# Altium schematic symbol library MCUs.SchLib: 41 symbols
Pins are listed as number, name and electrical type; pins without a type are passive.

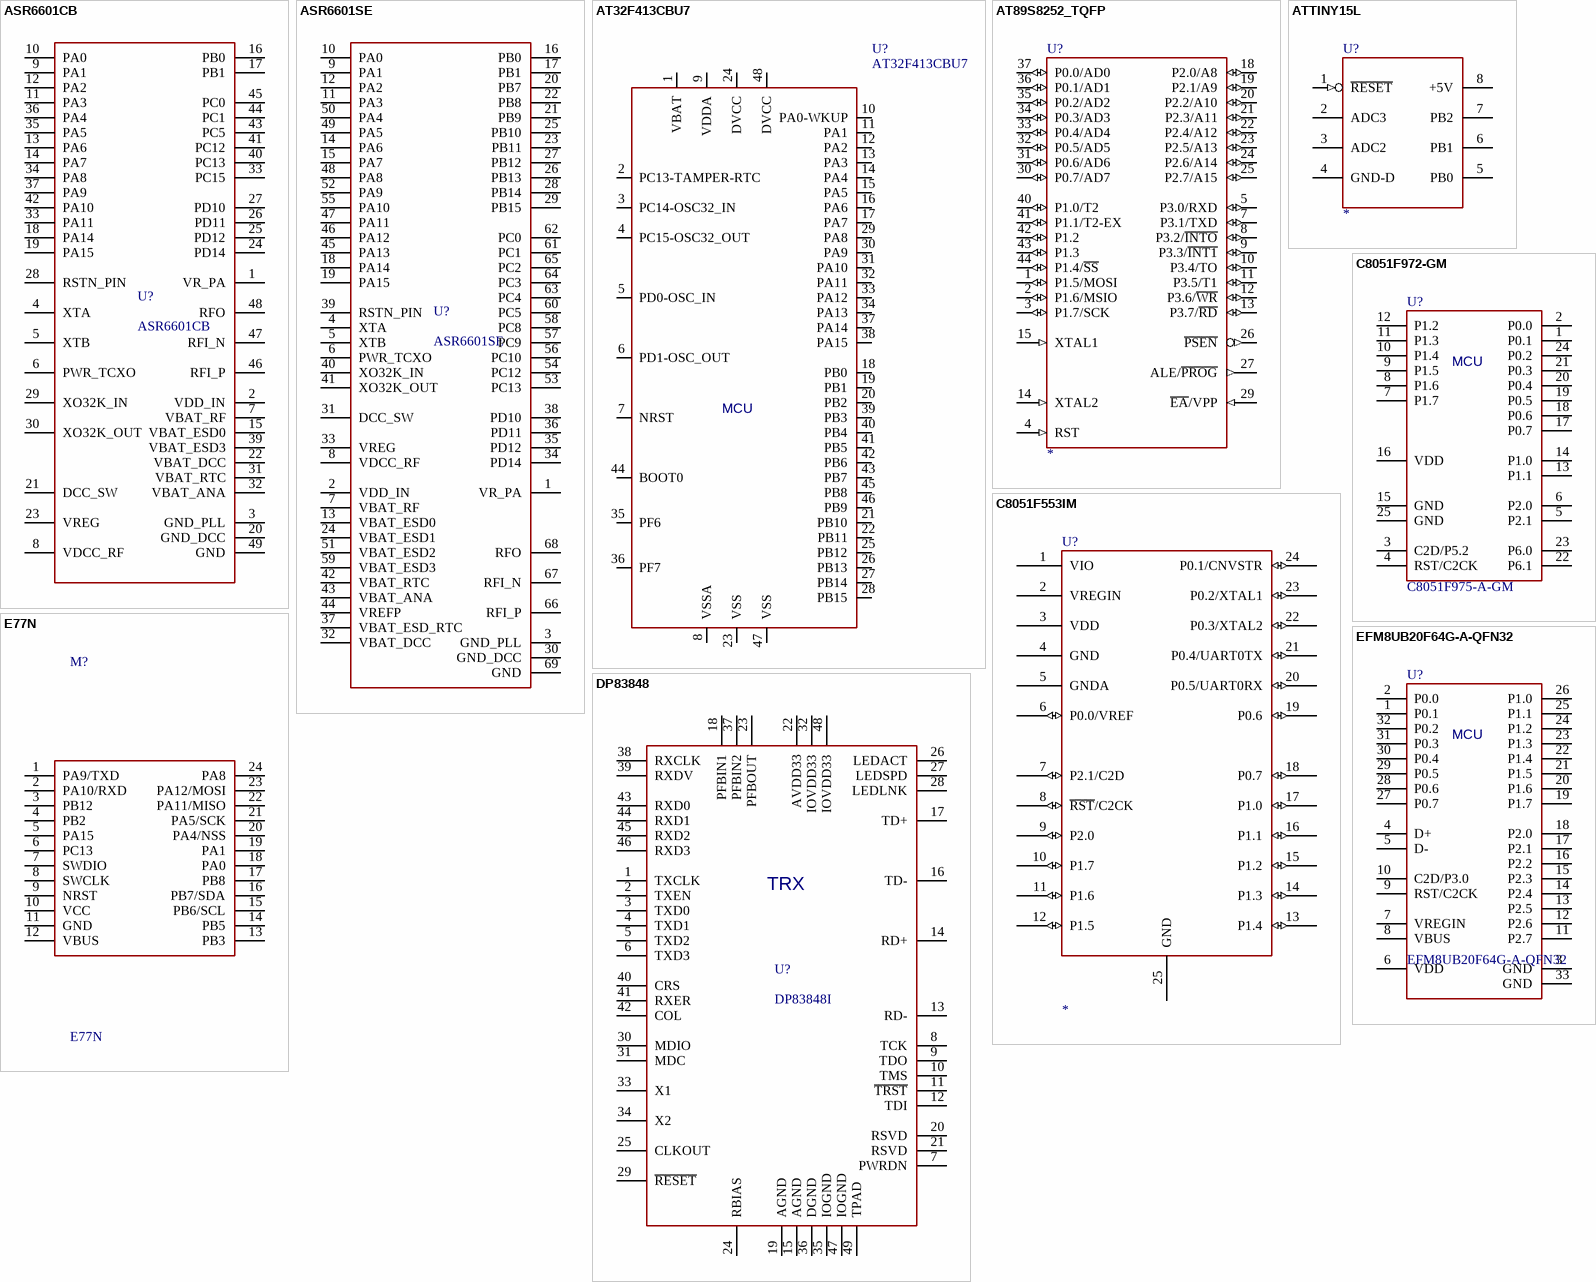
[diagram p0: symbols ASR6601CB to EFM8UB20F64G-A-QFN32]

## ASR6601CB
designator U?
footprint QFN48-0.4 (QFN, 48-Leads, Body 6,00x6,00mm, Pitch 0,40mm, Thermal Pad 4,60x4,60mm, IPC Low Density)
pins: 1 VR_PA, 2 VDD_IN, 3 GND_PLL, 4 XTA, 5 XTB, 6 PWR_TCXO, 7 VBAT_RF, 8 VDCC_RF, 9 PA1, 10 PA0, 11 PA3, 12 PA2, 13 PA6, 14 PA7, 15 VBAT_ESD0, 16 PB0, 17 PB1, 18 PA14, 19 PA15, 20 GND_DCC, 21 DCC_SW, 22 VBAT_DCC, 23 VREG, 24 PD14, 25 PD12, 26 PD11, 27 PD10, 28 RSTN_PIN, 29 XO32K_IN, 30 XO32K_OUT, 31 VBAT_RTC, 32 VBAT_ANA, 33 PA11, 33 PC15, 34 PA8, 35 PA5, 36 PA4, 37 PA9, 39 VBAT_ESD3, 40 PC13, 41 PC12, 42 PA10, 43 PC5, 44 PC1, 45 PC0, 46 RFI_P, 47 RFI_N, 48 RFO, 49 GND

## ASR6601SE
designator U?
footprint QFN68-0.4 (QFN, 68-Leads, Body 8,00x8,05mm, Pitch 0,40mm, Thermal Pad 6,30x6,30mm, IPC Low Density)
pins: 1 VR_PA, 2 VDD_IN, 3 GND_PLL, 4 XTA, 5 XTB, 6 PWR_TCXO, 7 VBAT_RF, 8 VDCC_RF, 9 PA1, 10 PA0, 11 PA3, 12 PA2, 13 VBAT_ESD0, 14 PA6, 15 PA7, 16 PB0, 17 PB1, 18 PA14, 19 PA15, 20 PB7, 21 PB9, 22 PB8, 23 PB11, 24 VBAT_ESD1, 25 PB10, 26 PB13, 27 PB12, 28 PB14, 29 PB15, 30 GND_DCC, 31 DCC_SW, 32 VBAT_DCC, 33 VREG, 34 PD14, 35 PD12, 36 PD11, 37 VBAT_ESD_RTC, 38 PD10, 39 RSTN_PIN, 40 XO32K_IN, 41 XO32K_OUT, 42 VBAT_RTC, 43 VBAT_ANA, 44 VREFP, 45 PA13, 46 PA12, 47 PA11, 48 PA8, 49 PA5, 50 PA4, 51 VBAT_ESD2, 52 PA9, 53 PC13, 54 PC12, 55 PA10, 56 PC10, 57 PC9, 58 PC8, 59 VBAT_ESD3, 60 PC5, 61 PC1, 62 PC0, 63 PC4, 64 PC3, 65 PC2, 66 RFI_P, 67 RFI_N, 68 RFO, 69 GND

## AT32F413CBU7
designator U?
Вид: Мікросхема
footprint LQFP-48 (TSQFP, 48-Leads, Body 7,00x7,00mm, Pitch 0,50mm, IPC Medium Density)
pins: 1 VBAT, 2 PC13-TAMPER-RTC, 3 PC14-OSC32_IN, 4 PC15-OSC32_OUT, 5 PD0-OSC_IN, 6 PD1-OSC_OUT, 7 NRST, 8 VSSA, 9 VDDA, 10 PA0-WKUP, 11 PA1, 12 PA2, 13 PA3, 14 PA4, 15 PA5, 16 PA6, 17 PA7, 18 PB0, 19 PB1, 20 PB2, 21 PB10, 22 PB11, 23 VSS, 24 DVCC, 25 PB12, 26 PB13, 27 PB14, 28 PB15, 29 PA8, 30 PA9, 31 PA10, 32 PA11, 33 PA12, 34 PA13, 35 PF6, 36 PF7, 37 PA14, 38 PA15, 39 PB3, 40 PB4, 41 PB5, 42 PB6, 43 PB7, 44 BOOT0, 45 PB8, 46 PB9, 47 VSS, 48 DVCC
text: MCU

## AT89S8252_TQFP
designator U?
8bit MCU TQFP; Вид: Мікросхема
footprint QFP-44 (TQFP, 44-Leads, Body 10,00x10,00mm, Pitch 0,80mm, IPC Medium Density)
pins: 1 P1.5/MOSI (io), 2 P1.6/MSIO (io), 3 P1.7/SCK (io), 4 RST (in), 5 P3.0/RXD (io), 7 P3.1/TXD (io), 8 P3.2/~{INTO} (io), 9 P3.3/~{INT1} (io), 10 P3.4/TO (io), 11 P3.5/T1 (io), 12 P3.6/~{WR} (io), 13 P3.7/~{RD} (io), 14 XTAL2 (in), 15 XTAL1 (in), 16 GND-D (power) hidden to GND-D, 17 GND-D (power) hidden to GND-D, 18 P2.0/A8 (io), 19 P2.1/A9 (io), 20 P2.2/A10 (io), 21 P2.3/A11 (io), 22 P2.4/A12 (io), 23 P2.5/A13 (io), 24 P2.6/A14 (io), 25 P2.7/A15 (io), 26 ~{PSEN} (out), 27 ALE/~{PROG} (out), 29 ~{EA}/VPP (in), 30 P0.7/AD7 (io), 31 P0.6/AD6 (io), 32 P0.5/AD5 (io), 33 P0.4/AD4 (io), 34 P0.3/AD3 (io), 35 P0.2/AD2 (io), 36 P0.1/AD1 (io), 37 P0.0/AD0 (io), 38 +5V (power) hidden to +5V, 40 P1.0/T2 (io), 41 P1.1/T2-EX (io), 42 P1.2 (io), 43 P1.3 (io), 44 P1.4/~{SS} (io)

## ATTINY15L
designator U?
8bit tiny MCU; Вид: Мікросхема
footprint SO-8 (SOIC, 8-Leads, Body 4,90x3,90mm, Pitch 1,27mm, IPC Medium Density)
pins: 1 ~{RESET} (in), 2 ADC3, 3 ADC2, 4 GND-D (power), 5 PB0, 6 PB1, 7 PB2, 8 +5V (power)

## C8051F553IM
designator U?
8 bit microcontroller; Вид: Мікросхема
footprint QFN24 (QFN, 24-Leads, Body 4,00x4,00mm, Pitch 0,50mm, Thermal Pad 2,80x2,80mm, IPC Medium Density)
pins: 1 VIO (power), 2 VREGIN (power), 3 VDD (power), 4 GND (power), 5 GNDA (power), 6 P0.0/VREF (io), 7 P2.1/C2D (io), 8 ~{RST}/C2CK (io), 9 P2.0 (io), 10 P1.7 (io), 11 P1.6 (io), 12 P1.5 (io), 13 P1.4 (io), 14 P1.3 (io), 15 P1.2 (io), 16 P1.1 (io), 17 P1.0 (io), 18 P0.7 (io), 19 P0.6 (io), 20 P0.5/UART0RX (io), 21 P0.4/UART0TX (io), 22 P0.3/XTAL2 (io), 23 P0.2/XTAL1 (io), 24 P0.1/CNVSTR (io), 25 GND (power)

## C8051F972-GM
designator U?, comment C8051F975-A-GM
Вид: Мікросхема
footprint QFN24 (QFN, 24-Leads, Body 4,00x4,00mm, Pitch 0,50mm, Thermal Pad 2,80x2,80mm, IPC Medium Density)
pins: 1 P0.1, 2 P0.0, 3 C2D/P5.2, 4 RST/C2CK, 5 P2.1, 6 P2.0, 7 P1.7, 8 P1.6, 9 P1.5, 10 P1.4, 11 P1.3, 12 P1.2, 13 P1.1, 14 P1.0, 15 GND, 16 VDD, 17 P0.7, 18 P0.6, 19 P0.5, 20 P0.4, 21 P0.3, 22 P6.1, 23 P6.0, 24 P0.2, 25 GND
text: MCU

## DP83848
designator U?, comment DP83848I
Вид: Мікросхема
footprint LQFP-48 (TSQFP, 48-Leads, Body 7,00x7,00mm, Pitch 0,50mm, IPC Medium Density)
pins: 1 TXCLK, 2 TXEN, 3 TXD0, 4 TXD1, 5 TXD2, 6 TXD3, 7 PWRDN, 8 TCK, 9 TDO, 10 TMS, 11 ~{TRST}, 12 TDI, 13 RD-, 14 RD+, 15 AGND, 16 TD-, 17 TD+, 18 PFBIN1, 19 AGND, 20 RSVD, 21 RSVD, 22 AVDD33, 23 PFBOUT, 24 RBIAS, 25 CLKOUT, 26 LEDACT, 27 LEDSPD, 28 LEDLNK, 29 ~{RESET}, 30 MDIO, 31 MDC, 32 IOVDD33, 33 X1, 34 X2, 35 IOGND, 36 DGND, 37 PFBIN2, 38 RXCLK, 39 RXDV, 40 CRS, 41 RXER, 42 COL, 43 RXD0, 44 RXD1, 45 RXD2, 46 RXD3, 47 IOGND, 48 IOVDD33, 49 TPAD
text: TRX

## E77N
designator M?
E77 MBL clone; Вид: Мікросхема
footprint E77N (E77-MBL clone)
pins: 1 PA9/TXD, 2 PA10/RXD, 3 PB12, 4 PB2, 5 PA15, 6 PC13, 7 SWDIO, 8 SWCLK, 9 NRST, 10 VCC, 11 GND, 12 VBUS, 13 PB3, 14 PB5, 15 PB6/SCL, 16 PB7/SDA, 17 PB8, 18 PA0, 19 PA1, 20 PA4/NSS, 21 PA5/SCK, 22 PA11/MISO, 23 PA12/MOSI, 24 PA8

## EFM8UB20F64G-A-QFN32
designator U?
Вид: Мікросхема
footprint QFN-32(5X5)
pins: 1 P0.1, 2 P0.0, 3 GND, 4 D+, 5 D-, 6 VDD, 7 VREGIN, 8 VBUS, 9 RST/C2CK, 10 C2D/P3.0, 11 P2.7, 12 P2.6, 13 P2.5, 14 P2.4, 15 P2.3, 16 P2.2, 17 P2.1, 18 P2.0, 19 P1.7, 20 P1.6, 21 P1.5, 22 P1.4, 23 P1.3, 24 P1.2, 25 P1.1, 26 P1.0, 27 P0.7, 28 P0.6, 29 P0.5, 30 P0.4, 31 P0.3, 32 P0.2, 33 GND
text: MCU

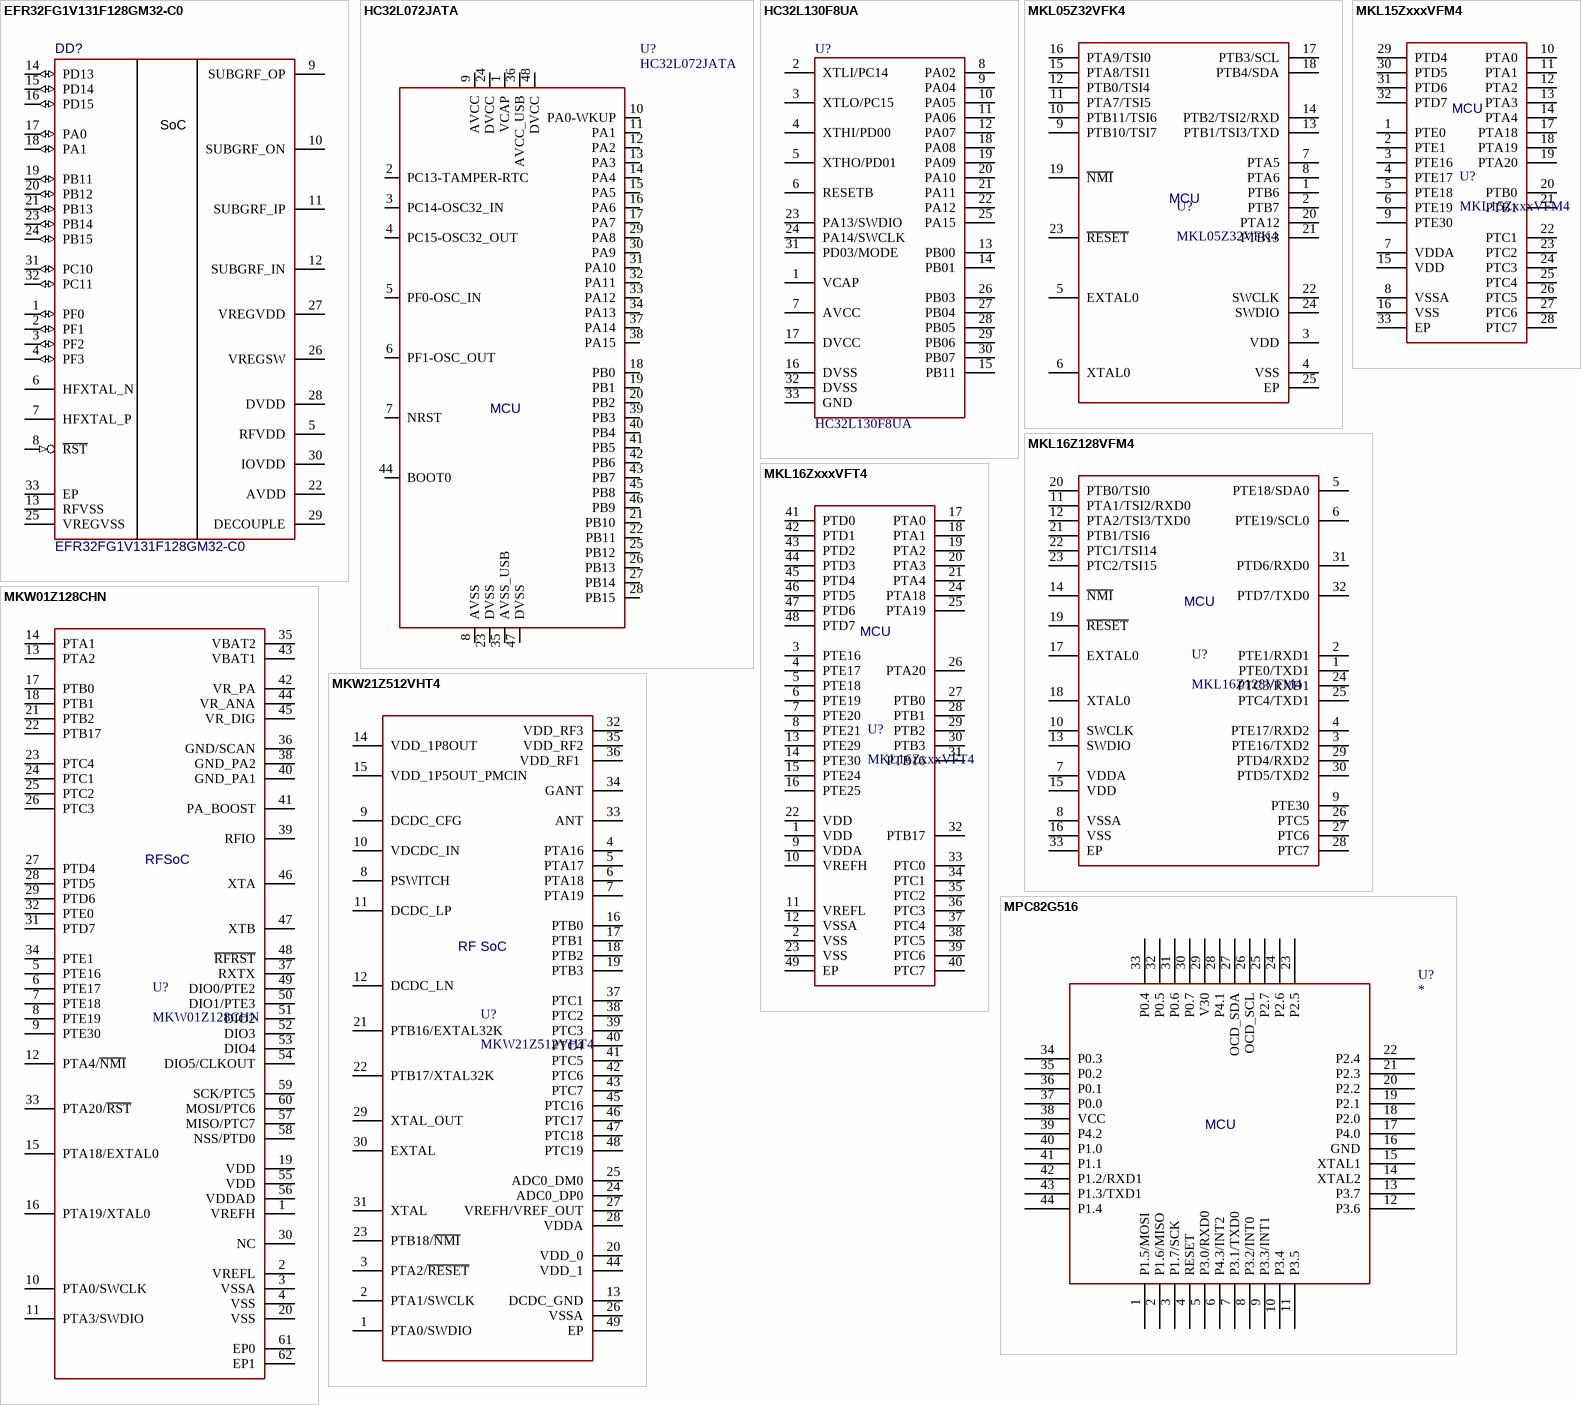
[diagram p1: symbols EFR32FG1V131F128GM32-C0 to MPC82G516]

## EFR32FG1V131F128GM32-C0
designator DD?
Mounting  Method: SMD; Вид: Мікросхема; Value: EFR32FG1V131F128GM32-C0
footprint QFN-32(5X5)
pins: 1 PF0 (io), 2 PF1 (io), 3 PF2 (io), 4 PF3 (io), 5 RFVDD (power), 6 HFXTAL_N, 7 HFXTAL_P, 8 ~{RST} (in), 9 SUBGRF_OP, 10 SUBGRF_ON, 11 SUBGRF_IP, 12 SUBGRF_IN, 13 RFVSS (power), 14 PD13 (io), 15 PD14 (io), 16 PD15 (io), 17 PA0 (io), 18 PA1 (io), 19 PB11 (io), 20 PB12 (io), 21 PB13 (io), 22 AVDD (power), 23 PB14 (io), 24 PB15 (io), 25 VREGVSS, 26 VREGSW, 27 VREGVDD (power), 28 DVDD (power), 29 DECOUPLE, 30 IOVDD (power), 31 PC10 (io), 32 PC11 (io), 33 EP
text: SoC

## HC32L072JATA
designator U?
Вид: Мікросхема
footprint LQFP-48 (TSQFP, 48-Leads, Body 7,00x7,00mm, Pitch 0,50mm, IPC Medium Density)
pins: 1 VCAP, 2 PC13-TAMPER-RTC, 3 PC14-OSC32_IN, 4 PC15-OSC32_OUT, 5 PF0-OSC_IN, 6 PF1-OSC_OUT, 7 NRST, 8 AVSS, 9 AVCC, 10 PA0-WKUP, 11 PA1, 12 PA2, 13 PA3, 14 PA4, 15 PA5, 16 PA6, 17 PA7, 18 PB0, 19 PB1, 20 PB2, 21 PB10, 22 PB11, 23 DVSS, 24 DVCC, 25 PB12, 26 PB13, 27 PB14, 28 PB15, 29 PA8, 30 PA9, 31 PA10, 32 PA11, 33 PA12, 34 PA13, 35 AVSS_USB, 36 AVCC_USB, 37 PA14, 38 PA15, 39 PB3, 40 PB4, 41 PB5, 42 PB6, 43 PB7, 44 BOOT0, 45 PB8, 46 PB9, 47 DVSS, 48 DVCC
text: MCU

## HC32L130F8UA
designator U?
Вид: Мікросхема
pins: 1 VCAP, 2 XTLI/PC14, 3 XTLO/PC15, 4 XTHI/PD00, 5 XTHO/PD01, 6 RESETB, 7 AVCC, 8 PA02, 9 PA04, 10 PA05, 11 PA06, 12 PA07, 13 PB00, 14 PB01, 15 PB11, 16 DVSS, 17 DVCC, 18 PA08, 19 PA09, 20 PA10, 21 PA11, 22 PA12, 23 PA13/SWDIO, 24 PA14/SWCLK, 25 PA15, 26 PB03, 27 PB04, 28 PB05, 29 PB06, 30 PB07, 31 PD03/MODE, 32 DVSS, 33 GND

## MKL05Z32VFK4
designator U?
Вид: Мікросхема
footprint QFN24 (QFN, 24-Leads, Body 4,00x4,00mm, Pitch 0,50mm, Thermal Pad 2,80x2,80mm, IPC Medium Density)
pins: 1 PTB6, 2 PTB7, 3 VDD, 4 VSS, 5 EXTAL0, 6 XTAL0, 7 PTA5, 8 PTA6, 9 PTB10/TSI7, 10 PTB11/TSI6, 11 PTA7/TSI5, 12 PTB0/TSI4, 13 PTB1/TSI3/TXD, 14 PTB2/TSI2/RXD, 15 PTA8/TSI1, 16 PTA9/TSI0, 17 PTB3/SCL, 18 PTB4/SDA, 19 ~{NMI}, 20 PTA12, 21 PTB13, 22 SWCLK, 23 ~{RESET}, 24 SWDIO, 25 EP
text: MCU

## MKL15ZxxxVFM4
designator U?
Вид: Мікросхема
footprint QFN32 (QFN, 32-Leads, Body 5,00x5,00mm, Pitch 0,50mm, Thermal Pad 3,60x3,60mm, IPC Medium Density)
pins: 1 PTE0, 2 PTE1, 3 PTE16, 4 PTE17, 5 PTE18, 6 PTE19, 7 VDDA, 8 VSSA, 9 PTE30, 10 PTA0, 11 PTA1, 12 PTA2, 13 PTA3, 14 PTA4, 15 VDD, 16 VSS, 17 PTA18, 18 PTA19, 19 PTA20, 20 PTB0, 21 PTB1, 22 PTC1, 23 PTC2, 24 PTC3, 25 PTC4, 26 PTC5, 27 PTC6, 28 PTC7, 29 PTD4, 30 PTD5, 31 PTD6, 32 PTD7, 33 EP
text: MCU

## MKL16Z128VFM4
designator U?
Вид: Мікросхема
footprint QFN32 (QFN, 32-Leads, Body 5,00x5,00mm, Pitch 0,50mm, Thermal Pad 3,60x3,60mm, IPC Medium Density)
pins: 1 PTE0/TXD1, 2 PTE1/RXD1, 3 PTE16/TXD2, 4 PTE17/RXD2, 5 PTE18/SDA0, 6 PTE19/SCL0, 7 VDDA, 8 VSSA, 9 PTE30, 10 SWCLK, 11 PTA1/TSI2/RXD0, 12 PTA2/TSI3/TXD0, 13 SWDIO, 14 ~{NMI}, 15 VDD, 16 VSS, 17 EXTAL0, 18 XTAL0, 19 ~{RESET}, 20 PTB0/TSI0, 21 PTB1/TSI6, 22 PTC1/TSI14, 23 PTC2/TSI15, 24 PTC3/RXD1, 25 PTC4/TXD1, 26 PTC5, 27 PTC6, 28 PTC7, 29 PTD4/RXD2, 30 PTD5/TXD2, 31 PTD6/RXD0, 32 PTD7/TXD0, 33 EP
text: MCU

## MKL16ZxxxVFT4
designator U?
Вид: Мікросхема
footprint QFN48 (QFN, 48-Leads, Body 7,00x7,00mm, Pitch 0,50mm, Thermal Pad 5,10x5,10mm, IPC Medium Density)
pins: 1 VDD, 2 VSS, 3 PTE16, 4 PTE17, 5 PTE18, 6 PTE19, 7 PTE20, 8 PTE21, 9 VDDA, 10 VREFH, 11 VREFL, 12 VSSA, 13 PTE29, 14 PTE30, 15 PTE24, 16 PTE25, 17 PTA0, 18 PTA1, 19 PTA2, 20 PTA3, 21 PTA4, 22 VDD, 23 VSS, 24 PTA18, 25 PTA19, 26 PTA20, 27 PTB0, 28 PTB1, 29 PTB2, 30 PTB3, 31 PTB16, 32 PTB17, 33 PTC0, 34 PTC1, 35 PTC2, 36 PTC3, 37 PTC4, 38 PTC5, 39 PTC6, 40 PTC7, 41 PTD0, 42 PTD1, 43 PTD2, 44 PTD3, 45 PTD4, 46 PTD5, 47 PTD6, 48 PTD7, 49 EP
text: MCU

## MKW01Z128CHN
designator U?
Вид: Мікросхема
footprint QFN56-62_NXP (QFN, 60-Leads, Body 8,00x8,00mm, Pitch 0,50mm, 2 thermal pads)
pins: 1 VREFH, 2 VREFL, 3 VSSA, 4 VSS, 5 PTE16, 6 PTE17, 7 PTE18, 8 PTE19, 9 PTE30, 10 PTA0/SWCLK, 11 PTA3/SWDIO, 12 PTA4/~{NMI}, 13 PTA2, 14 PTA1, 15 PTA18/EXTAL0, 16 PTA19/XTAL0, 17 PTB0, 18 PTB1, 19 VDD, 20 VSS, 21 PTB2, 22 PTB17, 23 PTC4, 24 PTC1, 25 PTC2, 26 PTC3, 27 PTD4, 28 PTD5, 29 PTD6, 30 NC, 31 PTD7, 32 PTE0, 33 PTA20/~{RST}, 34 PTE1, 35 VBAT2, 36 GND/SCAN, 37 RXTX, 38 GND_PA2, 39 RFIO, 40 GND_PA1, 41 PA_BOOST, 42 VR_PA, 43 VBAT1, 44 VR_ANA, 45 VR_DIG, 46 XTA, 47 XTB, 48 ~{RFRST}, 49 DIO0/PTE2, 50 DIO1/PTE3, 51 DIO2, 52 DIO3, 53 DIO4, 54 DIO5/CLKOUT, 55 VDD, 56 VDDAD, 57 MISO/PTC7, 58 NSS/PTD0, 59 SCK/PTC5, 60 MOSI/PTC6, 61 EP0, 62 EP1
text: RFSoC

## MKW21Z512VHT4
designator U?
Вид: Мікросхема
footprint QFN48 (QFN, 48-Leads, Body 7,00x7,00mm, Pitch 0,50mm, Thermal Pad 5,10x5,10mm, IPC Medium Density)
pins: 1 PTA0/SWDIO, 2 PTA1/SWCLK, 3 PTA2/~{RESET}, 4 PTA16, 5 PTA17, 6 PTA18, 7 PTA19, 8 PSWITCH, 9 DCDC_CFG, 10 VDCDC_IN, 11 DCDC_LP, 12 DCDC_LN, 13 DCDC_GND, 14 VDD_1P8OUT, 15 VDD_1P5OUT_PMCIN, 16 PTB0, 17 PTB1, 18 PTB2, 19 PTB3, 20 VDD_0, 21 PTB16/EXTAL32K, 22 PTB17/XTAL32K, 23 PTB18/~{NMI}, 24 ADC0_DP0, 25 ADC0_DM0, 26 VSSA, 27 VREFH/VREF_OUT, 28 VDDA, 29 XTAL_OUT, 30 EXTAL, 31 XTAL, 32 VDD_RF3, 33 ANT, 34 GANT, 35 VDD_RF2, 36 VDD_RF1 , 37 PTC1, 38 PTC2, 39 PTC3, 40 PTC4, 41 PTC5, 42 PTC6, 43 PTC7, 44 VDD_1, 45 PTC16, 46 PTC17, 47 PTC18, 48 PTC19, 49 EP
text: RF SoC

## MPC82G516
designator U?
Вид: Мікросхема
footprint QFP-44 (TQFP, 44-Leads, Body 10,00x10,00mm, Pitch 0,80mm, IPC Medium Density)
pins: 1 P1.5/MOSI, 2 P1.6/MISO, 3 P1.7/SCK, 4 RESET, 5 P3.0/RXD0, 6 P4.3/INT2, 7 P3.1/TXD0, 8 P3.2/INT0, 9 P3.3/INT1, 10 P3.4, 11 P3.5, 12 P3.6, 13 P3.7, 14 XTAL2, 15 XTAL1, 16 GND, 17 P4.0, 18 P2.0, 19 P2.1, 20 P2.2, 21 P2.3, 22 P2.4, 23 P2.5, 24 P2.6, 25 P2.7, 26 OCD_SCL, 27 OCD_SDA, 28 P4.1, 29 V30, 30 P0.7, 31 P0.6, 32 P0.5, 33 P0.4, 34 P0.3, 35 P0.2, 36 P0.1, 37 P0.0, 38 VCC, 39 P4.2, 40 P1.0, 41 P1.1, 42 P1.2/RXD1, 43 P1.3/TXD1, 44 P1.4
2 alternate drawings of the same symbol
text: MCU

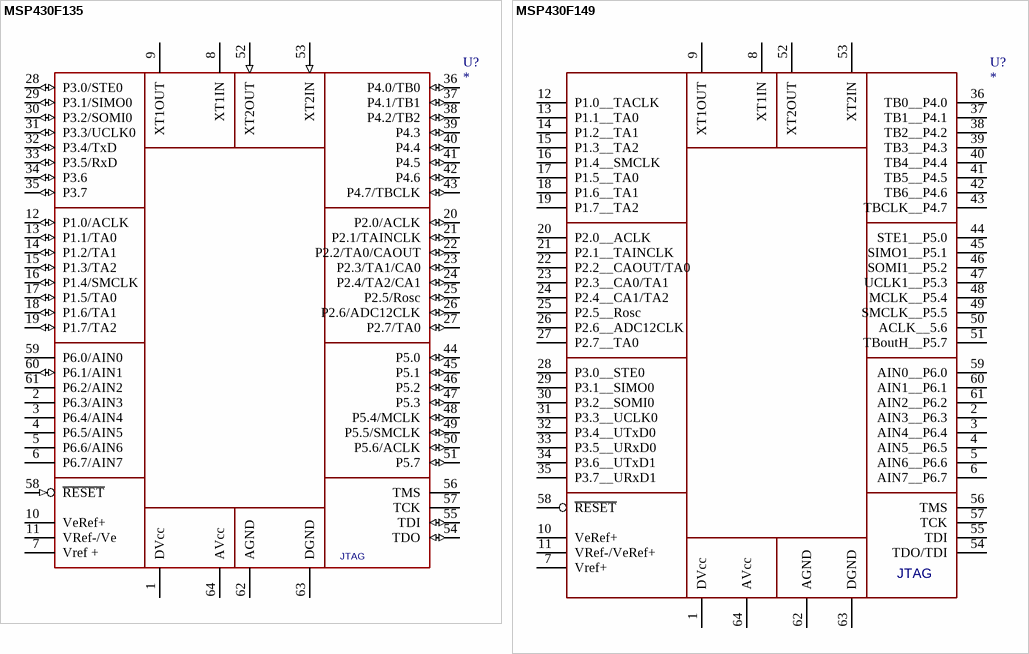
[diagram p2: symbols MSP430F135 to MSP430F149]

## MSP430F135
designator U?
16bit MCU; Вид: Мікросхема
footprint LQFP-64 (TSQFP, 64-Leads, Body 10,00x10,00mm, Pitch 0,50mm, IPC Medium Density)
pins: 1 DVcc, 2 P6.3/AIN3, 3 P6.4/AIN4, 4 P6.5/AIN5, 5 P6.6/AIN6, 6 P6.7/AIN7, 7 Vref +, 8 XT1IN, 9 XT1OUT, 10 VeRef+, 11 VRef-/Ve, 12 P1.0/ACLK (io), 13 P1.1/TA0 (io), 14 P1.2/TA1 (io), 15 P1.3/TA2 (io), 16 P1.4/SMCLK (io), 17 P1.5/TA0 (io), 18 P1.6/TA1 (io), 19 P1.7/TA2 (io), 20 P2.0/ACLK (io), 21 P2.1/TAINCLK (io), 22 P2.2/TA0/CAOUT (io), 23 P2.3/TA1/CA0 (io), 24 P2.4/TA2/CA1 (io), 25 P2.5/Rosc (io), 26 P2.6/ADC12CLK (io), 27 P2.7/TA0 (io), 28 P3.0/STE0 (io), 29 P3.1/SIMO0 (io), 30 P3.2/SOMI0 (io), 31 P3.3/UCLK0 (io), 32 P3.4/TxD (io), 33 P3.5/RxD (io), 34 P3.6 (io), 35 P3.7 (io), 36 P4.0/TB0 (io), 37 P4.1/TB1 (io), 38 P4.2/TB2 (io), 39 P4.3 (io), 40 P4.4 (io), 41 P4.5 (io), 42 P4.6 (io), 43 P4.7/TBCLK (io), 44 P5.0 (io), 45 P5.1 (io), 46 P5.2 (io), 47 P5.3 (io), 48 P5.4/MCLK (io), 49 P5.5/SMCLK (io), 50 P5.6/ACLK (io), 51 P5.7 (io), 52 XT2OUT (in), 53 XT2IN (in), 54 TDO (io), 55 TDI (io), 56 TMS, 57 TCK, 58 ~{RESET} (in), 59 P6.0/AIN0, 60 P6.1/AIN1 (io), 61 P6.2/AIN2, 62 AGND, 63 DGND, 64 AVcc
text: JTAG

## MSP430F149
designator U?
16bit MCU; Вид: Мікросхема
footprint LQFP-64 (TSQFP, 64-Leads, Body 10,00x10,00mm, Pitch 0,50mm, IPC Medium Density)
pins: 1 DVcc (power), 2 AIN3__P6.3, 3 AIN4__P6.4, 4 AIN5__P6.5, 5 AIN6__P6.6, 6 AIN7__P6.7, 7 Vref+, 8 XT1IN, 9 XT1OUT, 10 VeRef+, 11 VRef-/VeRef+, 12 P1.0__TACLK, 13 P1.1__TA0, 14 P1.2__TA1, 15 P1.3__TA2, 16 P1.4__SMCLK, 17 P1.5__TA0, 18 P1.6__TA1, 19 P1.7__TA2, 20 P2.0__ACLK, 21 P2.1__TAINCLK, 22 P2.2__CAOUT/TA0, 23 P2.3__CA0/TA1, 24 P2.4__CA1/TA2, 25 P2.5__Rosc, 26 P2.6__ADC12CLK, 27 P2.7__TA0, 28 P3.0__STE0, 29 P3.1__SIMO0, 30 P3.2__SOMI0, 31 P3.3__UCLK0, 32 P3.4__UTxD0, 33 P3.5__URxD0, 34 P3.6__UTxD1, 35 P3.7__URxD1, 36 TB0__P4.0, 37 TB1__P4.1, 38 TB2__P4.2, 39 TB3__P4.3, 40 TB4__P4.4, 41 TB5__P4.5, 42 TB6__P4.6, 43 TBCLK__P4.7, 44 STE1__P5.0, 45 SIMO1__P5.1, 46 SOMI1__P5.2, 47 UCLK1__P5.3, 48 MCLK__P5.4, 49 SMCLK__P5.5, 50 ACLK__5.6, 51 TBoutH__P5.7, 52 XT2OUT, 53 XT2IN, 54 TDO/TDI, 55 TDI, 56 TMS, 57 TCK, 58 ~{RESET}, 59 AIN0__P6.0, 60 AIN1__P6.1, 61 AIN2__P6.2, 62 AGND (power), 63 DGND (power), 64 AVcc (power)
text: JTAG

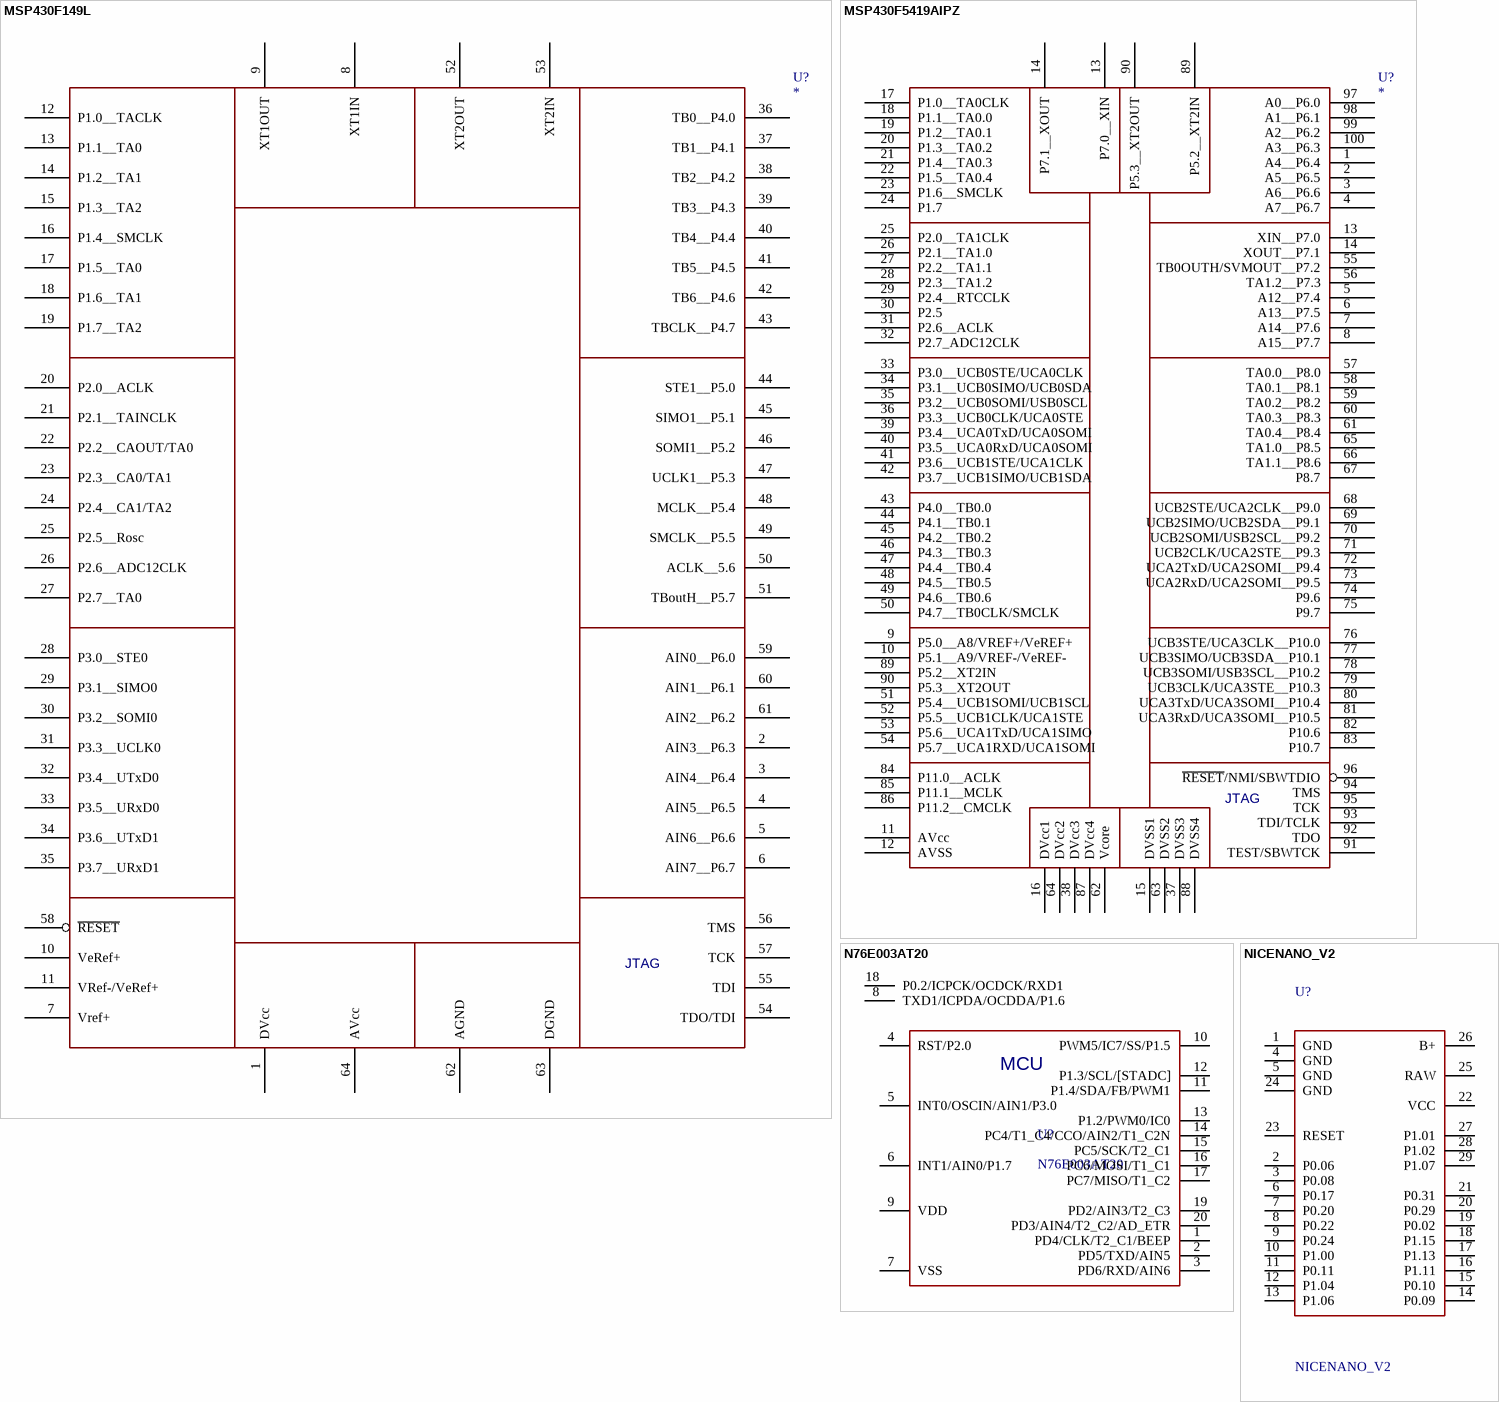
[diagram p3: symbols MSP430F149L to NICENANO_V2]

## MSP430F149L
designator U?
16bit MCU; Вид: Мікросхема
footprint LQFP-64 (TSQFP, 64-Leads, Body 10,00x10,00mm, Pitch 0,50mm, IPC Medium Density)
pins: 1 DVcc (power), 2 AIN3__P6.3, 3 AIN4__P6.4, 4 AIN5__P6.5, 5 AIN6__P6.6, 6 AIN7__P6.7, 7 Vref+, 8 XT1IN, 9 XT1OUT, 10 VeRef+, 11 VRef-/VeRef+, 12 P1.0__TACLK, 13 P1.1__TA0, 14 P1.2__TA1, 15 P1.3__TA2, 16 P1.4__SMCLK, 17 P1.5__TA0, 18 P1.6__TA1, 19 P1.7__TA2, 20 P2.0__ACLK, 21 P2.1__TAINCLK, 22 P2.2__CAOUT/TA0, 23 P2.3__CA0/TA1, 24 P2.4__CA1/TA2, 25 P2.5__Rosc, 26 P2.6__ADC12CLK, 27 P2.7__TA0, 28 P3.0__STE0, 29 P3.1__SIMO0, 30 P3.2__SOMI0, 31 P3.3__UCLK0, 32 P3.4__UTxD0, 33 P3.5__URxD0, 34 P3.6__UTxD1, 35 P3.7__URxD1, 36 TB0__P4.0, 37 TB1__P4.1, 38 TB2__P4.2, 39 TB3__P4.3, 40 TB4__P4.4, 41 TB5__P4.5, 42 TB6__P4.6, 43 TBCLK__P4.7, 44 STE1__P5.0, 45 SIMO1__P5.1, 46 SOMI1__P5.2, 47 UCLK1__P5.3, 48 MCLK__P5.4, 49 SMCLK__P5.5, 50 ACLK__5.6, 51 TBoutH__P5.7, 52 XT2OUT, 53 XT2IN, 54 TDO/TDI, 55 TDI, 56 TMS, 57 TCK, 58 ~{RESET}, 59 AIN0__P6.0, 60 AIN1__P6.1, 61 AIN2__P6.2, 62 AGND (power), 63 DGND (power), 64 AVcc (power)
text: JTAG

## MSP430F5419AIPZ
designator U?
16bit MCU; Вид: Мікросхема
footprint LQFP-100 (TSQFP, 100-Leads, Body 14,00x14,00mm, Pitch 0,50mm, IPC Medium Density)
pins: 1 A4__P6.4, 2 A5__P6.5, 3 A6__P6.6, 4 A7__P6.7, 5 A12__P7.4, 6 A13__P7.5, 7 A14__P7.6, 8 A15__P7.7, 9 P5.0__A8/VREF+/VeREF+, 10 P5.1__A9/VREF-/VeREF-, 11 AVcc (power), 12 AVSS (power), 13 XIN__P7.0, 13 P7.0__XIN, 14 XOUT__P7.1, 14 P7.1__XOUT, 15 DVSS1 (power), 16 DVcc1 (power), 17 P1.0__TA0CLK, 18 P1.1__TA0.0, 19 P1.2__TA0.1, 20 P1.3__TA0.2, 21 P1.4__TA0.3, 22 P1.5__TA0.4, 23 P1.6__SMCLK, 24 P1.7, 25 P2.0__TA1CLK, 26 P2.1__TA1.0, 27 P2.2__TA1.1, 28 P2.3__TA1.2, 29 P2.4__RTCCLK, 30 P2.5, 31 P2.6__ACLK, 32 P2.7_ADC12CLK, 33 P3.0__UCB0STE/UCA0CLK, 34 P3.1__UCB0SIMO/UCB0SDA, 35 P3.2__UCB0SOMI/USB0SCL, 36 P3.3__UCB0CLK/UCA0STE, 37 DVSS3 (power), 38 DVcc3 (power), 39 P3.4__UCA0TxD/UCA0SOMI, 40 P3.5__UCA0RxD/UCA0SOMI, 41 P3.6__UCB1STE/UCA1CLK, 42 P3.7__UCB1SIMO/UCB1SDA, 43 P4.0__TB0.0, 44 P4.1__TB0.1, 45 P4.2__TB0.2, 46 P4.3__TB0.3, 47 P4.4__TB0.4, 48 P4.5__TB0.5, 49 P4.6__TB0.6, 50 P4.7__TB0CLK/SMCLK, 51 P5.4__UCB1SOMI/UCB1SCL, 52 P5.5__UCB1CLK/UCA1STE, 53 P5.6__UCA1TxD/UCA1SIMO, 54 P5.7__UCA1RXD/UCA1SOMI, 55 TB0OUTH/SVMOUT__P7.2, 56 TA1.2__P7.3, 57 TA0.0__P8.0, 58 TA0.1__P8.1, 59 TA0.2__P8.2, 60 TA0.3__P8.3, 61 TA0.4__P8.4, 62 Vcore (power), 63 DVSS2 (power), 64 DVcc2 (power), 65 TA1.0__P8.5, 66 TA1.1__P8.6, 67 P8.7, 68 UCB2STE/UCA2CLK__P9.0, 69 UCB2SIMO/UCB2SDA__P9.1, 70 UCB2SOMI/USB2SCL__P9.2, 71 UCB2CLK/UCA2STE__P9.3, 72 UCA2TxD/UCA2SOMI__P9.4, 73 UCA2RxD/UCA2SOMI__P9.5, 74 P9.6, 75 P9.7, 76 UCB3STE/UCA3CLK__P10.0, 77 UCB3SIMO/UCB3SDA__P10.1, 78 UCB3SOMI/USB3SCL__P10.2, 79 UCB3CLK/UCA3STE__P10.3, 80 UCA3TxD/UCA3SOMI__P10.4, 81 UCA3RxD/UCA3SOMI__P10.5, 82 P10.6, 83 P10.7, 84 P11.0__ACLK, 85 P11.1__MCLK, 86 P11.2__CMCLK, 87 DVcc4 (power), 88 DVSS4 (power), 89 P5.2__XT2IN, 89 P5.2__XT2IN, 90 P5.3__XT2OUT, 90 P5.3__XT2OUT, 91 TEST/SBWTCK, 92 TDO, 93 TDI/TCLK, 94 TMS, 95 TCK, 96 ~{RESET}/NMI/SBWTDIO, 97 A0__P6.0, 98 A1__P6.1, 99 A2__P6.2, 100 A3__P6.3
text: JTAG

## N76E003AT20
designator U?
Вид: Мікросхема
footprint SSOP-20 (TSOP, 20-Leads, Body 6,50x4,40mm, Pitch 0,65mm, IPC Medium Density)
pins: 1 PD4/CLK/T2_C1/BEEP, 2 PD5/TXD/AIN5, 3 PD6/RXD/AIN6, 4 RST/P2.0, 5 INT0/OSCIN/AIN1/P3.0, 6 INT1/AIN0/P1.7, 7 VSS, 8 TXD1/ICPDA/OCDDA/P1.6, 9 VDD, 10 PWM5/IC7/SS/P1.5, 11 P1.4/SDA/FB/PWM1, 12 P1.3/SCL/[STADC], 13 P1.2/PWM0/IC0, 14 PC4/T1_C4/CCO/AIN2/T1_C2N, 15 PC5/SCK/T2_C1, 16 PC6/MOSI/T1_C1, 17 PC7/MISO/T1_C2, 18 P0.2/ICPCK/OCDCK/RXD1, 19 PD2/AIN3/T2_C3, 20 PD3/AIN4/T2_C2/AD_ETR
text: MCU

## NICENANO_V2
designator U?
Вид: Мікросхема
footprint NICENANO
pins: 1 GND, 2 P0.06, 3 P0.08, 4 GND, 5 GND, 6 P0.17, 7 P0.20, 8 P0.22, 9 P0.24, 10 P1.00, 11 P0.11, 12 P1.04, 13 P1.06, 14 P0.09, 15 P0.10, 16 P1.11, 17 P1.13, 18 P1.15, 19 P0.02, 20 P0.29, 21 P0.31, 22 VCC, 23 RESET, 24 GND, 25 RAW, 26 B+, 27 P1.01, 28 P1.02, 29 P1.07

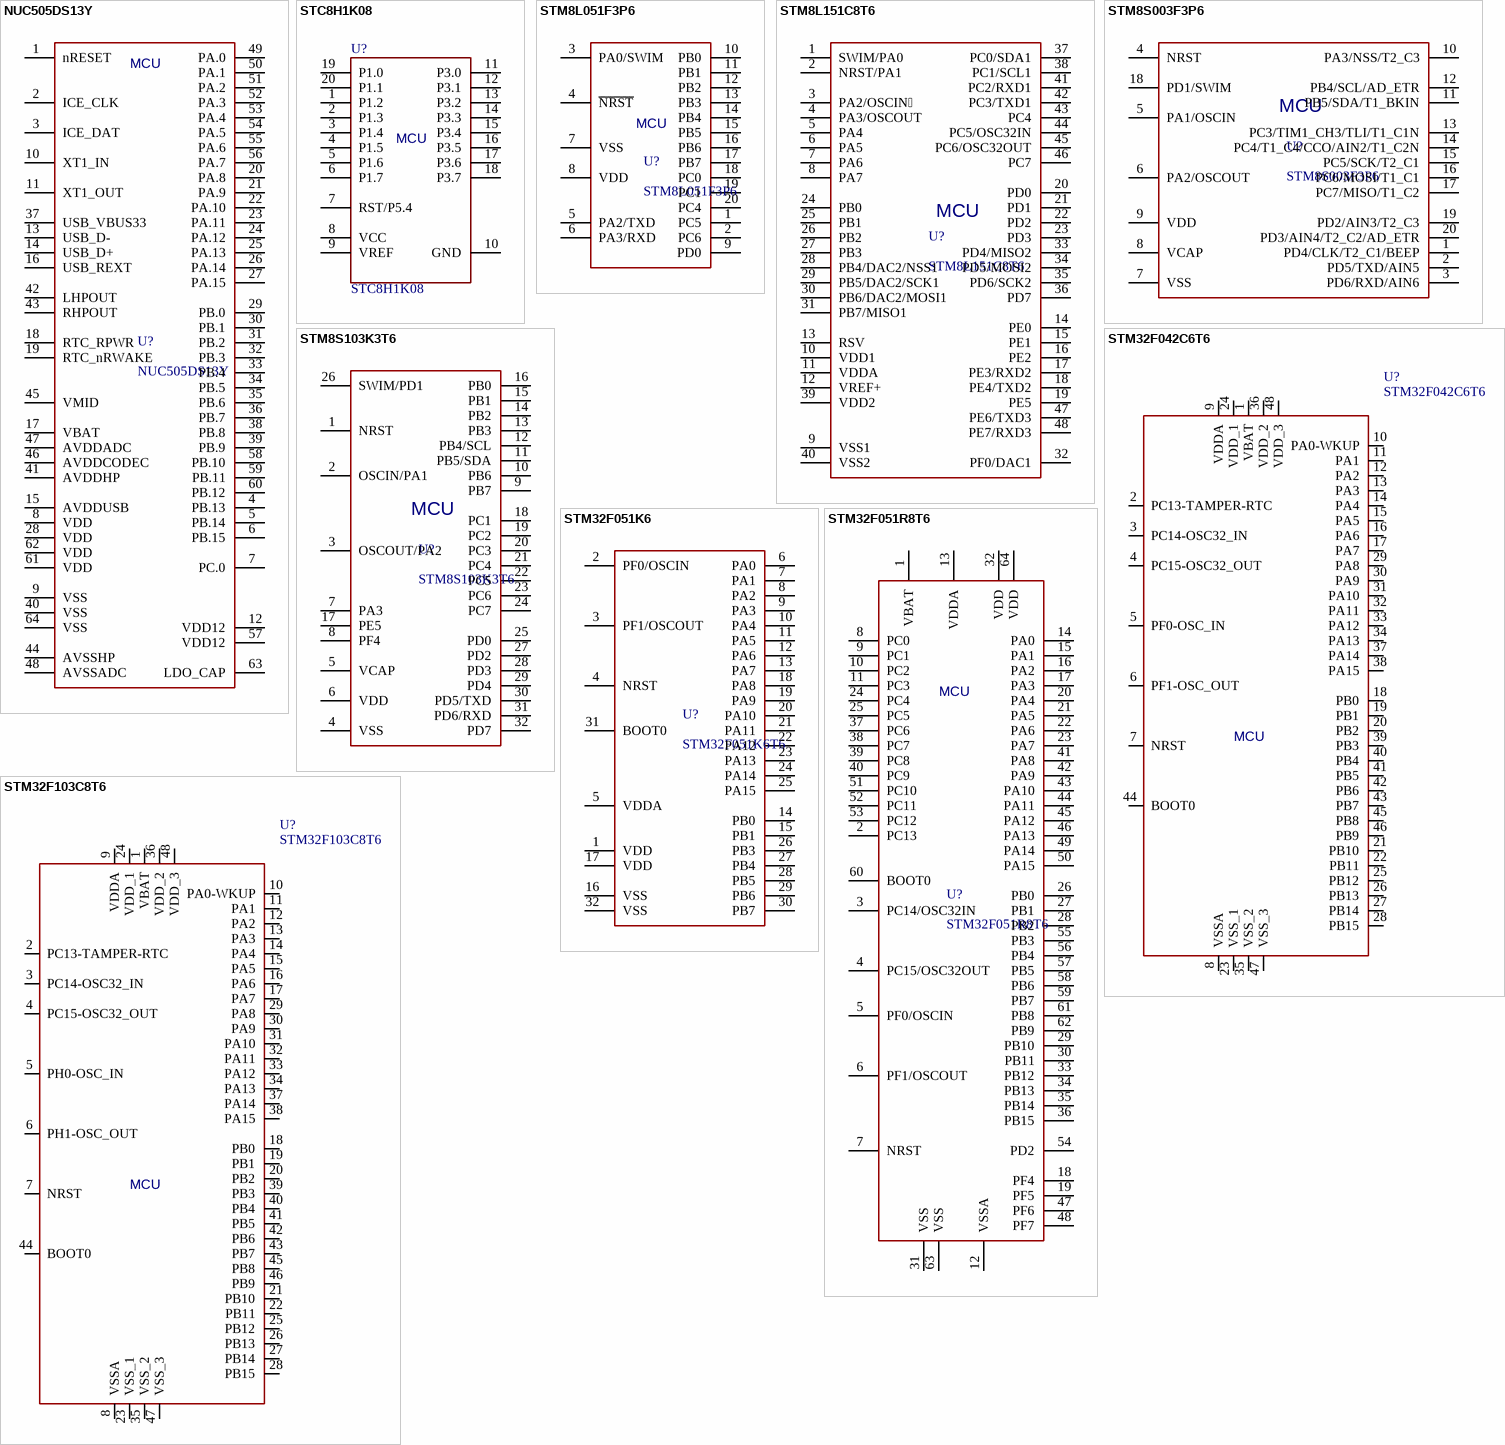
[diagram p4: symbols NUC505DS13Y to STM32F103C8T6]

## NUC505DS13Y
designator U?
pins: 1 nRESET, 2 ICE_CLK , 3 ICE_DAT, 4 PB.13, 5 PB.14, 6 PB.15, 7 PC.0, 8 VDD, 9 VSS, 10 XT1_IN, 11 XT1_OUT, 12 VDD12, 13 USB_D-, 14 USB_D+, 15 AVDDUSB, 16 USB_REXT, 17 VBAT , 18 RTC_RPWR, 19 RTC_nRWAKE, 20 PA.8, 21 PA.9, 22 PA.10, 23 PA.11, 24 PA.12, 25 PA.13, 26 PA.14, 27 PA.15, 28 VDD, 29 PB.0, 30 PB.1, 31 PB.2, 32 PB.3, 33 PB.4, 34 PB.5, 35 PB.6, 36 PB.7, 37 USB_VBUS33, 38 PB.8, 39 PB.9, 40 VSS, 41 AVDDHP, 42 LHPOUT, 43 RHPOUT, 44 AVSSHP, 45 VMID, 46 AVDDCODEC, 47 AVDDADC, 48 AVSSADC, 49 PA.0, 50 PA.1, 51 PA.2, 52 PA.3, 53 PA.4, 54 PA.5, 55 PA.6, 56 PA.7, 57 VDD12, 58 PB.10, 59 PB.11, 60 PB.12, 61 VDD, 62 VDD, 63 LDO_CAP, 64 VSS
text: MCU

## STC8H1K08
designator U?
footprint SSOP-20 (TSOP, 20-Leads, Body 6,50x4,40mm, Pitch 0,65mm, IPC Medium Density)
pins: 1 P1.2, 2 P1.3, 3 P1.4, 4 P1.5, 5 P1.6, 6 P1.7, 7 RST/P5.4, 8 VCC, 9 VREF, 10 GND, 11 P3.0, 12 P3.1, 13 P3.2, 14 P3.3, 15 P3.4, 16 P3.5, 17 P3.6, 18 P3.7, 19 P1.0, 20 P1.1
text: MCU

## STM8L051F3P6
designator U?
Вид: Мікросхема
footprint SSOP-20 (TSOP, 20-Leads, Body 6,50x4,40mm, Pitch 0,65mm, IPC Medium Density)
pins: 1 PC5, 2 PC6, 3 PA0/SWIM, 4 ~{NRST}, 5 PA2/TXD, 6 PA3/RXD, 7 VSS, 8 VDD, 9 PD0, 10 PB0, 11 PB1, 12 PB2, 13 PB3, 14 PB4, 15 PB5, 16 PB6, 17 PB7, 18 PC0, 19 PC1, 20 PC4
text: MCU

## STM8L151C8T6
designator U?
Вид: Мікросхема
footprint LQFP-48 (TSQFP, 48-Leads, Body 7,00x7,00mm, Pitch 0,50mm, IPC Medium Density)
pins: 1 SWIM/PA0, 2 NRST/PA1, 3 PA2/OSCIN, 4 PA3/OSCOUT, 5 PA4, 6 PA5, 7 PA6, 8 PA7, 9 VSS1, 10 VDD1, 11 VDDA, 12 VREF+, 13 RSV, 14 PE0, 15 PE1, 16 PE2, 17 PE3/RXD2, 18 PE4/TXD2, 19 PE5, 20 PD0, 21 PD1, 22 PD2, 23 PD3, 24 PB0, 25 PB1, 26 PB2, 27 PB3, 28 PB4/DAC2/NSS1, 29 PB5/DAC2/SCK1, 30 PB6/DAC2/MOSI1, 31 PB7/MISO1, 32 PF0/DAC1, 33 PD4/MISO2, 34 PD5/MOSI2, 35 PD6/SCK2, 36 PD7, 37 PC0/SDA1, 38 PC1/SCL1, 39 VDD2, 40 VSS2, 41 PC2/RXD1, 42 PC3/TXD1, 43 PC4, 44 PC5/OSC32IN, 45 PC6/OSC32OUT, 46 PC7, 47 PE6/TXD3, 48 PE7/RXD3
text: MCU

## STM8S003F3P6
designator U?
Вид: Мікросхема
footprint SSOP-20 (TSOP, 20-Leads, Body 6,50x4,40mm, Pitch 0,65mm, IPC Medium Density)
pins: 1 PD4/CLK/T2_C1/BEEP, 2 PD5/TXD/AIN5, 3 PD6/RXD/AIN6, 4 NRST, 5 PA1/OSCIN, 6 PA2/OSCOUT, 7 VSS, 8 VCAP, 9 VDD, 10 PA3/NSS/T2_C3, 11 PB5/SDA/T1_BKIN, 12 PB4/SCL/AD_ETR, 13 PC3/TIM1_CH3/TLI/T1_C1N, 14 PC4/T1_C4/CCO/AIN2/T1_C2N, 15 PC5/SCK/T2_C1, 16 PC6/MOSI/T1_C1, 17 PC7/MISO/T1_C2, 18 PD1/SWIM, 19 PD2/AIN3/T2_C3, 20 PD3/AIN4/T2_C2/AD_ETR
text: MCU

## STM8S103K3T6
designator U?
Вид: Мікросхема
footprint QFP-32 (TQFP, 32-Leads, Body 7,00x7,00mm, Pitch 0,80mm, IPC Medium Density)
pins: 1 NRST, 2 OSCIN/PA1, 3 OSCOUT/PA2, 4 VSS, 5 VCAP, 6 VDD, 7 PA3, 8 PF4, 9 PB7, 10 PB6, 11 PB5/SDA, 12 PB4/SCL, 13 PB3, 14 PB2, 15 PB1, 16 PB0, 17 PE5, 18 PC1, 19 PC2, 20 PC3, 21 PC4, 22 PC5, 23 PC6, 24 PC7, 25 PD0, 26 SWIM/PD1, 27 PD2, 28 PD3, 29 PD4, 30 PD5/TXD, 31 PD6/RXD, 32 PD7
text: MCU

## STM32F042C6T6
designator U?
Вид: Мікросхема
footprint LQFP-48 (TSQFP, 48-Leads, Body 7,00x7,00mm, Pitch 0,50mm, IPC Medium Density)
pins: 1 VBAT, 2 PC13-TAMPER-RTC, 3 PC14-OSC32_IN, 4 PC15-OSC32_OUT, 5 PF0-OSC_IN, 6 PF1-OSC_OUT, 7 NRST, 8 VSSA, 9 VDDA, 10 PA0-WKUP, 11 PA1, 12 PA2, 13 PA3, 14 PA4, 15 PA5, 16 PA6, 17 PA7, 18 PB0, 19 PB1, 20 PB2, 21 PB10, 22 PB11, 23 VSS_1, 24 VDD_1, 25 PB12, 26 PB13, 27 PB14, 28 PB15, 29 PA8, 30 PA9, 31 PA10, 32 PA11, 33 PA12, 34 PA13, 35 VSS_2, 36 VDD_2, 37 PA14, 38 PA15, 39 PB3, 40 PB4, 41 PB5, 42 PB6, 43 PB7, 44 BOOT0, 45 PB8, 46 PB9, 47 VSS_3, 48 VDD_3
text: MCU

## STM32F051K6
designator U?, comment STM32F051K6T6
Вид: Мікросхема
footprint QFP-32 (TQFP, 32-Leads, Body 7,00x7,00mm, Pitch 0,80mm, IPC Medium Density)
pins: 1 VDD, 2 PF0/OSCIN, 3 PF1/OSCOUT, 4 NRST, 5 VDDA, 6 PA0, 7 PA1, 8 PA2, 9 PA3, 10 PA4, 11 PA5, 12 PA6, 13 PA7, 14 PB0, 15 PB1, 16 VSS, 17 VDD, 18 PA8, 19 PA9, 20 PA10, 21 PA11, 22 PA12, 23 PA13, 24 PA14, 25 PA15, 26 PB3, 27 PB4, 28 PB5, 29 PB6, 30 PB7, 31 BOOT0, 32 VSS

## STM32F051R8T6
designator U?
Вид: Мікросхема
footprint LQFP-64 (TSQFP, 64-Leads, Body 10,00x10,00mm, Pitch 0,50mm, IPC Medium Density)
pins: 1 VBAT, 2 PC13, 3 PC14/OSC32IN, 4 PC15/OSC32OUT, 5 PF0/OSCIN, 6 PF1/OSCOUT, 7 NRST, 8 PC0, 9 PC1, 10 PC2, 11 PC3, 12 VSSA, 13 VDDA, 14 PA0, 15 PA1, 16 PA2, 17 PA3, 18 PF4, 19 PF5, 20 PA4, 21 PA5, 22 PA6, 23 PA7, 24 PC4, 25 PC5, 26 PB0, 27 PB1, 28 PB2, 29 PB10, 30 PB11, 31 VSS, 32 VDD, 33 PB12, 34 PB13, 35 PB14, 36 PB15, 37 PC6, 38 PC7, 39 PC8, 40 PC9, 41 PA8, 42 PA9, 43 PA10, 44 PA11, 45 PA12, 46 PA13, 47 PF6, 48 PF7, 49 PA14, 50 PA15, 51 PC10, 52 PC11, 53 PC12, 54 PD2, 55 PB3, 56 PB4, 57 PB5, 58 PB6, 59 PB7, 60 BOOT0, 61 PB8, 62 PB9, 63 VSS, 64 VDD
text: MCU

## STM32F103C8T6
designator U?
Вид: Мікросхема
footprint LQFP-48 (TSQFP, 48-Leads, Body 7,00x7,00mm, Pitch 0,50mm, IPC Medium Density)
pins: 1 VBAT, 2 PC13-TAMPER-RTC, 3 PC14-OSC32_IN, 4 PC15-OSC32_OUT, 5 PH0-OSC_IN, 6 PH1-OSC_OUT, 7 NRST, 8 VSSA, 9 VDDA, 10 PA0-WKUP, 11 PA1, 12 PA2, 13 PA3, 14 PA4, 15 PA5, 16 PA6, 17 PA7, 18 PB0, 19 PB1, 20 PB2, 21 PB10, 22 PB11, 23 VSS_1, 24 VDD_1, 25 PB12, 26 PB13, 27 PB14, 28 PB15, 29 PA8, 30 PA9, 31 PA10, 32 PA11, 33 PA12, 34 PA13, 35 VSS_2, 36 VDD_2, 37 PA14, 38 PA15, 39 PB3, 40 PB4, 41 PB5, 42 PB6, 43 PB7, 44 BOOT0, 45 PB8, 46 PB9, 47 VSS_3, 48 VDD_3
text: MCU

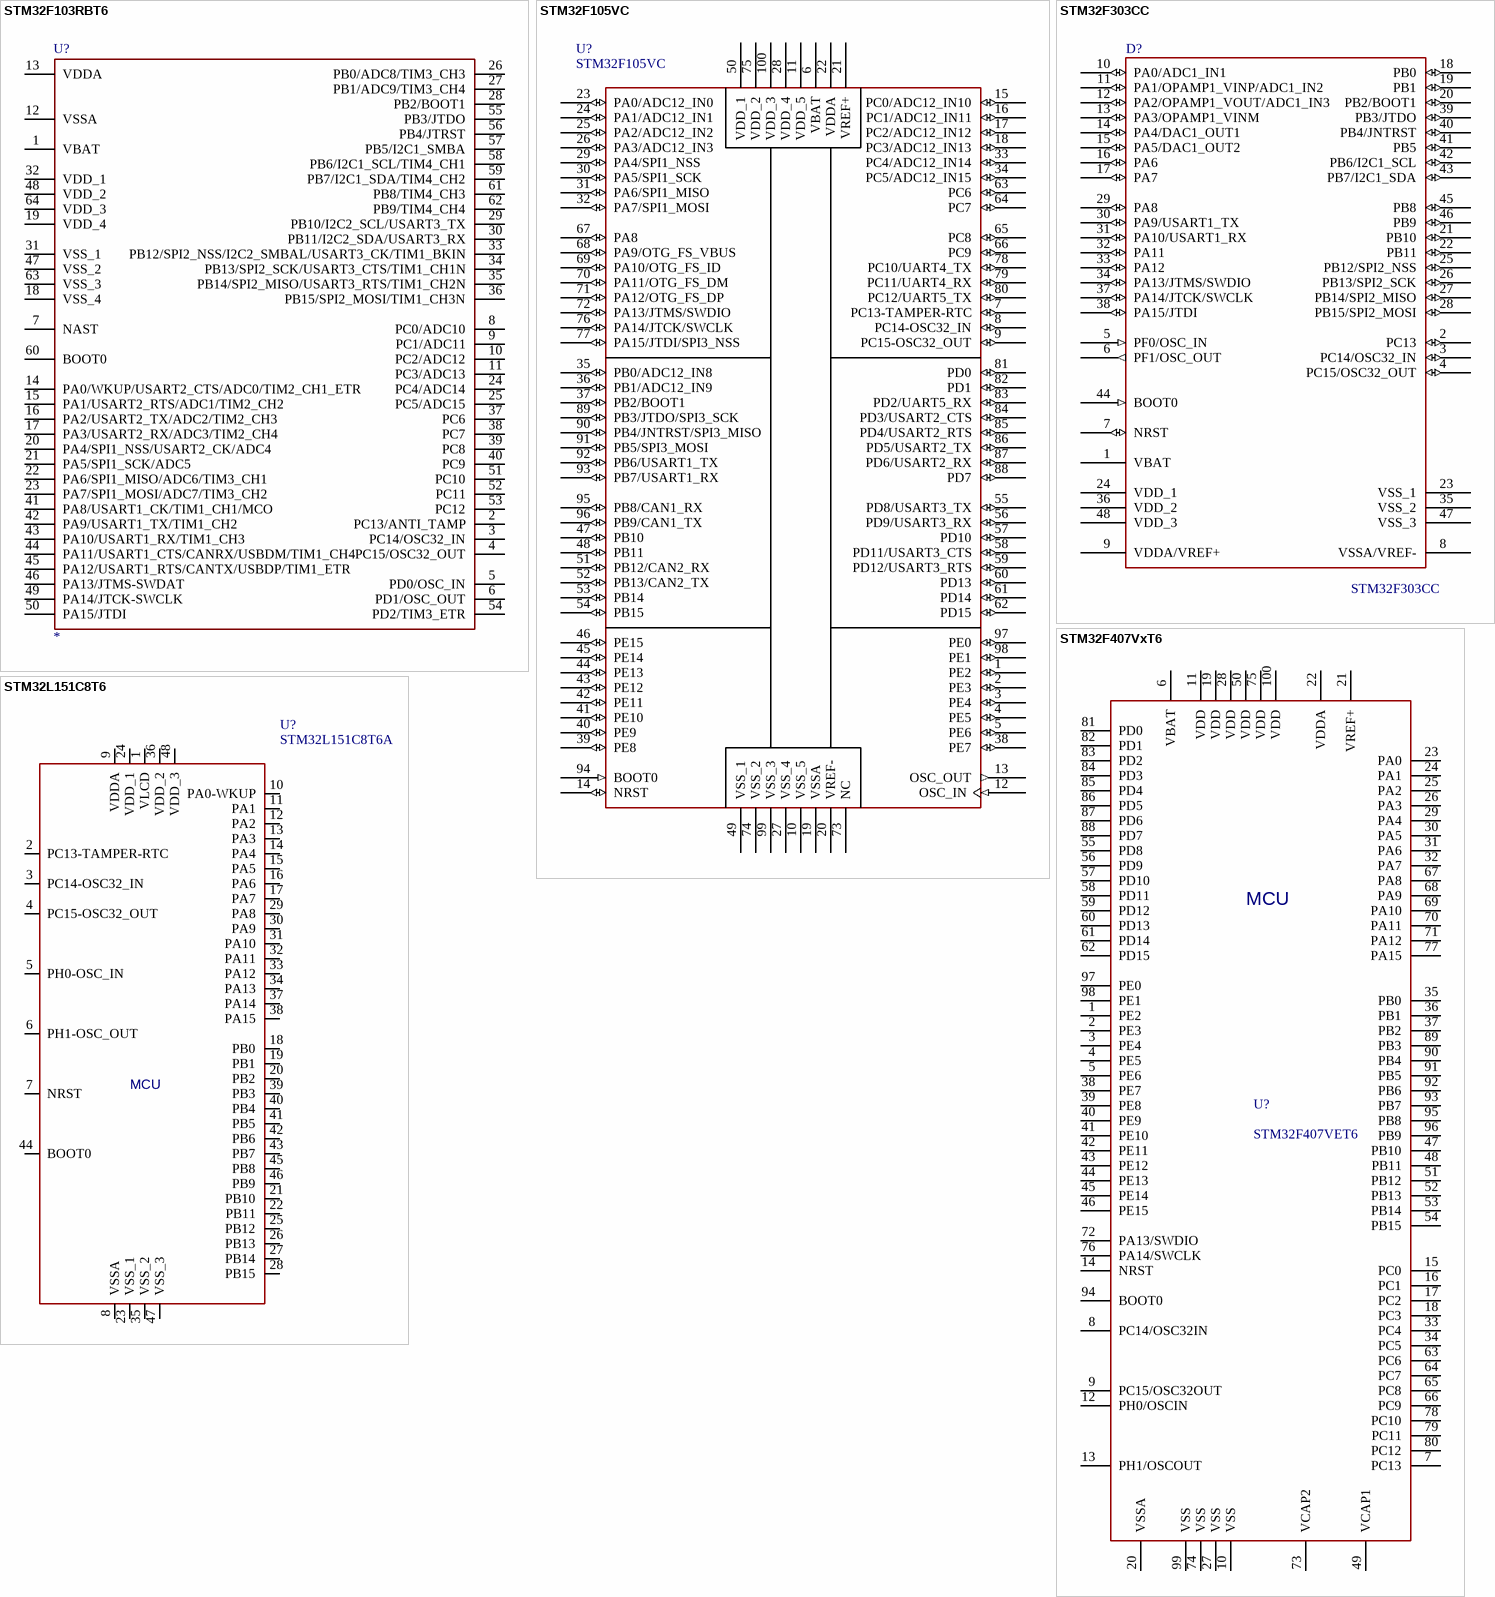
[diagram p5: symbols STM32F103RBT6 to STM32L151C8T6]

## STM32F103RBT6
designator U?
32bit ARM; Вид: Мікросхема
footprint LQFP-64 (TSQFP, 64-Leads, Body 10,00x10,00mm, Pitch 0,50mm, IPC Medium Density)
pins: 1 VBAT (power), 2 PC13/ANTI_TAMP, 3 PC14/OSC32_IN, 4 PC15/OSC32_OUT, 5 PD0/OSC_IN, 6 PD1/OSC_OUT, 7 NAST, 8 PC0/ADC10, 9 PC1/ADC11, 10 PC2/ADC12, 11 PC3/ADC13, 12 VSSA (power), 13 VDDA (power), 14 PA0/WKUP/USART2_CTS/ADC0/TIM2_CH1_ETR, 15 PA1/USART2_RTS/ADC1/TIM2_CH2, 16 PA2/USART2_TX/ADC2/TIM2_CH3, 17 PA3/USART2_RX/ADC3/TIM2_CH4, 18 VSS_4 (power), 19 VDD_4 (power), 20 PA4/SPI1_NSS/USART2_CK/ADC4, 21 PA5/SPI1_SCK/ADC5, 22 PA6/SPI1_MISO/ADC6/TIM3_CH1, 23 PA7/SPI1_MOSI/ADC7/TIM3_CH2, 24 PC4/ADC14, 25 PC5/ADC15, 26 PB0/ADC8/TIM3_CH3, 27 PB1/ADC9/TIM3_CH4, 28 PB2/BOOT1, 29 PB10/I2C2_SCL/USART3_TX, 30 PB11/I2C2_SDA/USART3_RX, 31 VSS_1 (power), 32 VDD_1 (power), 33 PB12/SPI2_NSS/I2C2_SMBAL/USART3_CK/TIM1_BKIN, 34 PB13/SPI2_SCK/USART3_CTS/TIM1_CH1N, 35 PB14/SPI2_MISO/USART3_RTS/TIM1_CH2N, 36 PB15/SPI2_MOSI/TIM1_CH3N, 37 PC6, 38 PC7, 39 PC8, 40 PC9, 41 PA8/USART1_CK/TIM1_CH1/MCO, 42 PA9/USART1_TX/TIM1_CH2, 43 PA10/USART1_RX/TIM1_CH3, 44 PA11/USART1_CTS/CANRX/USBDM/TIM1_CH4, 45 PA12/USART1_RTS/CANTX/USBDP/TIM1_ETR, 46 PA13/JTMS-SWDAT, 47 VSS_2 (power), 48 VDD_2 (power), 49 PA14/JTCK-SWCLK, 50 PA15/JTDI, 51 PC10, 52 PC11, 53 PC12, 54 PD2/TIM3_ETR, 55 PB3/JTDO, 56 PB4/JTRST, 57 PB5/I2C1_SMBA, 58 PB6/I2C1_SCL/TIM4_CH1, 59 PB7/I2C1_SDA/TIM4_CH2, 60 BOOT0, 61 PB8/TIM4_CH3, 62 PB9/TIM4_CH4, 63 VSS_3 (power), 64 VDD_3 (power)

## STM32F105VC
designator U?
STM32 ARM-based 32-bit MCU with 256 Kbytes Flash, 100-pin LQFP, Industrial Temperature; Вид: Мікросхема
footprint LQFP-100 (TSQFP, 100-Leads, Body 14,00x14,00mm, Pitch 0,50mm, IPC Medium Density)
pins: 1 PE2 (io), 2 PE3 (io), 3 PE4 (io), 4 PE5 (io), 5 PE6 (io), 6 VBAT (power), 7 PC13-TAMPER-RTC (io), 8 PC14-OSC32_IN (io), 9 PC15-OSC32_OUT (io), 10 VSS_5 (power), 11 VDD_5 (power), 12 OSC_IN (in), 13 OSC_OUT (out), 14 NRST (io), 15 PC0/ADC12_IN10 (io), 16 PC1/ADC12_IN11 (io), 17 PC2/ADC12_IN12 (io), 18 PC3/ADC12_IN13 (io), 19 VSSA (power), 20 VREF- (power), 21 VREF+ (power), 22 VDDA (power), 23 PA0/ADC12_IN0 (io), 24 PA1/ADC12_IN1 (io), 25 PA2/ADC12_IN2 (io), 26 PA3/ADC12_IN3 (io), 27 VSS_4 (power), 28 VDD_4 (power), 29 PA4/SPI1_NSS (io), 30 PA5/SPI1_SCK (io), 31 PA6/SPI1_MISO (io), 32 PA7/SPI1_MOSI (io), 33 PC4/ADC12_IN14 (io), 34 PC5/ADC12_IN15 (io), 35 PB0/ADC12_IN8 (io), 36 PB1/ADC12_IN9 (io), 37 PB2/BOOT1 (io), 38 PE7 (io), 39 PE8 (io), 40 PE9 (io), 41 PE10 (io), 42 PE11 (io), 43 PE12 (io), 44 PE13 (io), 45 PE14 (io), 46 PE15 (io), 47 PB10 (io), 48 PB11 (io), 49 VSS_1 (power), 50 VDD_1 (power), 51 PB12/CAN2_RX (io), 52 PB13/CAN2_TX (io), 53 PB14 (io), 54 PB15 (io), 55 PD8/USART3_TX (io), 56 PD9/USART3_RX (io), 57 PD10 (io), 58 PD11/USART3_CTS (io), 59 PD12/USART3_RTS (io), 60 PD13 (io), 61 PD14 (io), 62 PD15 (io), 63 PC6 (io), 64 PC7 (io), 65 PC8 (io), 66 PC9 (io), 67 PA8 (io), 68 PA9/OTG_FS_VBUS (io), 69 PA10/OTG_FS_ID (io), 70 PA11/OTG_FS_DM (io), 71 PA12/OTG_FS_DP (io), 72 PA13/JTMS/SWDIO (io), 73 NC, 74 VSS_2 (power), 75 VDD_2 (power), 76 PA14/JTCK/SWCLK (io), 77 PA15/JTDI/SPI3_NSS (io), 78 PC10/UART4_TX (io), 79 PC11/UART4_RX (io), 80 PC12/UART5_TX (io), 81 PD0 (io), 82 PD1 (io), 83 PD2/UART5_RX (io), 84 PD3/USART2_CTS (io), 85 PD4/USART2_RTS (io), 86 PD5/USART2_TX (io), 87 PD6/USART2_RX (io), 88 PD7 (io), 89 PB3/JTDO/SPI3_SCK (io), 90 PB4/JNTRST/SPI3_MISO (io), 91 PB5/SPI3_MOSI (io), 92 PB6/USART1_TX (io), 93 PB7/USART1_RX (io), 94 BOOT0 (in), 95 PB8/CAN1_RX (io), 96 PB9/CAN1_TX (io), 97 PE0 (io), 98 PE1 (io), 99 VSS_3 (power), 100 VDD_3 (power)

## STM32F303CC
designator D?
STM32 ARM-based 32-bit MCU with 256 Kbytes Flash, 48-pin LQFP, Industrial Temperature; Вид: Мікросхема
footprint LQFP-48 (TSQFP, 48-Leads, Body 7,00x7,00mm, Pitch 0,50mm, IPC Medium Density)
pins: 1 VBAT (power), 2 PC13 (io), 3 PC14/OSC32_IN (io), 4 PC15/OSC32_OUT (io), 5 PF0/OSC_IN (in), 6 PF1/OSC_OUT (out), 7 NRST (io), 8 VSSA/VREF- (power), 9 VDDA/VREF+ (power), 10 PA0/ADC1_IN1 (io), 11 PA1/OPAMP1_VINP/ADC1_IN2 (io), 12 PA2/OPAMP1_VOUT/ADC1_IN3 (io), 13 PA3/OPAMP1_VINM (io), 14 PA4/DAC1_OUT1 (io), 15 PA5/DAC1_OUT2 (io), 16 PA6 (io), 17 PA7 (io), 18 PB0 (io), 19 PB1 (io), 20 PB2/BOOT1 (io), 21 PB10 (io), 22 PB11 (io), 23 VSS_1 (power), 24 VDD_1 (power), 25 PB12/SPI2_NSS (io), 26 PB13/SPI2_SCK (io), 27 PB14/SPI2_MISO (io), 28 PB15/SPI2_MOSI (io), 29 PA8 (io), 30 PA9/USART1_TX (io), 31 PA10/USART1_RX (io), 32 PA11 (io), 33 PA12 (io), 34 PA13/JTMS/SWDIO (io), 35 VSS_2 (power), 36 VDD_2 (power), 37 PA14/JTCK/SWCLK (io), 38 PA15/JTDI (io), 39 PB3/JTDO (io), 40 PB4/JNTRST (io), 41 PB5 (io), 42 PB6/I2C1_SCL (io), 43 PB7/I2C1_SDA (io), 44 BOOT0 (in), 45 PB8 (io), 46 PB9 (io), 47 VSS_3 (power), 48 VDD_3 (power)

## STM32F407VxT6
designator U?, comment STM32F407VET6
Вид: Мікросхема
footprint LQFP-100 (TSQFP, 100-Leads, Body 14,00x14,00mm, Pitch 0,50mm, IPC Medium Density)
pins: 1 PE2, 2 PE3, 3 PE4, 4 PE5, 5 PE6, 6 VBAT, 7 PC13, 8 PC14/OSC32IN, 9 PC15/OSC32OUT, 10 VSS, 11 VDD, 12 PH0/OSCIN, 13 PH1/OSCOUT, 14 NRST, 15 PC0, 16 PC1, 17 PC2, 18 PC3, 19 VDD, 20 VSSA, 21 VREF+, 22 VDDA, 23 PA0, 24 PA1, 25 PA2, 26 PA3, 27 VSS, 28 VDD, 29 PA4, 30 PA5, 31 PA6, 32 PA7, 33 PC4, 34 PC5, 35 PB0, 36 PB1, 37 PB2, 38 PE7, 39 PE8, 40 PE9, 41 PE10, 42 PE11, 43 PE12, 44 PE13, 45 PE14, 46 PE15, 47 PB10, 48 PB11, 49 VCAP1, 50 VDD, 51 PB12, 52 PB13, 53 PB14, 54 PB15, 55 PD8, 56 PD9, 57 PD10, 58 PD11, 59 PD12, 60 PD13, 61 PD14, 62 PD15, 63 PC6, 64 PC7, 65 PC8, 66 PC9, 67 PA8, 68 PA9, 69 PA10, 70 PA11, 71 PA12, 72 PA13/SWDIO, 73 VCAP2, 74 VSS, 75 VDD, 76 PA14/SWCLK, 77 PA15, 78 PC10, 79 PC11, 80 PC12, 81 PD0, 82 PD1, 83 PD2, 84 PD3, 85 PD4, 86 PD5, 87 PD6, 88 PD7, 89 PB3, 90 PB4, 91 PB5, 92 PB6, 93 PB7, 94 BOOT0, 95 PB8, 96 PB9, 97 PE0, 98 PE1, 99 VSS, 100 VDD
text: MCU

## STM32L151C8T6
designator U?, comment STM32L151C8T6A
Вид: Мікросхема
footprint LQFP-48 (TSQFP, 48-Leads, Body 7,00x7,00mm, Pitch 0,50mm, IPC Medium Density)
pins: 1 VLCD, 2 PC13-TAMPER-RTC, 3 PC14-OSC32_IN, 4 PC15-OSC32_OUT, 5 PH0-OSC_IN, 6 PH1-OSC_OUT, 7 NRST, 8 VSSA, 9 VDDA, 10 PA0-WKUP, 11 PA1, 12 PA2, 13 PA3, 14 PA4, 15 PA5, 16 PA6, 17 PA7, 18 PB0, 19 PB1, 20 PB2, 21 PB10, 22 PB11, 23 VSS_1, 24 VDD_1, 25 PB12, 26 PB13, 27 PB14, 28 PB15, 29 PA8, 30 PA9, 31 PA10, 32 PA11, 33 PA12, 34 PA13, 35 VSS_2, 36 VDD_2, 37 PA14, 38 PA15, 39 PB3, 40 PB4, 41 PB5, 42 PB6, 43 PB7, 44 BOOT0, 45 PB8, 46 PB9, 47 VSS_3, 48 VDD_3
text: MCU